# Altium footprint library IC_TXB0108RGYR.PcbLib: 1 footprints
Each footprint in its own frame and in the unit in brackets; x right, y up, seen from the top. Pads: shape width x height; smd on the part's side, far side on the other; paste and mask are expansions set on the pad; w line width, h text height; cw(c..) or ccw(c..) is an arc to the next point about the centre after c.
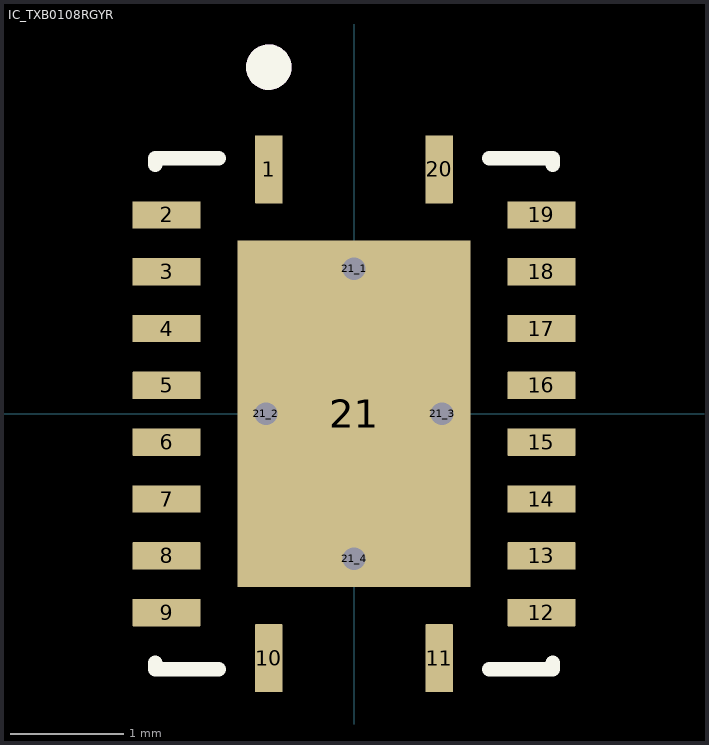
[diagram p0: the footprint, top view; thin cyan lines are the x and y axes]

## IC_TXB0108RGYR [mm]
height 1
pads (25):
  rrect5% 0.24x0.6 smd: 1(-0.75,2.15) 10(-0.75,-2.15) 11(0.75,-2.15) 20(0.75,2.15)
  rrect5% 0.6x0.24 smd: 2(-1.65,1.75) 3(-1.65,1.25) 4(-1.65,0.75) 5(-1.65,0.25) 6(-1.65,-0.25) 7(-1.65,-0.75) 8(-1.65,-1.25) 9(-1.65,-1.75) 12(1.65,-1.75) 13(1.65,-1.25) 14(1.65,-0.75) 15(1.65,-0.25) 16(1.65,0.25) 17(1.65,0.75) 18(1.65,1.25) 19(1.65,1.75)
  rect 2.05x3.05 smd paste-3: 21(0,0)
  round 0.3 hole 0.2 mask+0: 21_1(0,1.275) 21_2(-0.775,0) 21_3(0.775,0) 21_4(0,-1.275)
Top Overlay:
  circle w0.2: c-0.75,3.05 r0.1
  lines w0.127: -1.75,-2.19 -1.75,-2.25 -1.19,-2.25 ; -1.75,2.19 -1.75,2.25 -1.19,2.25 ; 1.19,-2.25 1.75,-2.25 1.75,-2.19 ; 1.19,2.25 1.75,2.25 1.75,2.19
Top Paste:
  region: -0.1,-1.435 -1.02,-1.435 -1.02,-0.105 -0.1,-0.105
  region: 1.02,0.105 0.1,0.105 0.1,1.435 1.02,1.435
  region: 1.02,-1.435 0.1,-1.435 0.1,-0.105 1.02,-0.105
  region: -0.1,0.105 -1.02,0.105 -1.02,1.435 -0.1,1.435
Assembly Top:
  circle w0.2: c-0.75,3.05 r0.1
3D body "step_temp.STEP": height 1, standoff 0, extent -1.75,-2.25 1.75,2.25